# Altium footprint library new-version.PcbLib: 241 footprints (part 12 of 16)
Each footprint in its own frame and in the unit in brackets; x right, y up, seen from the top. Pads: shape width x height; smd on the part's side, far side on the other; paste and mask are expansions set on the pad; w line width, h text height; cw(c..) or ccw(c..) is an arc to the next point about the centre after c.
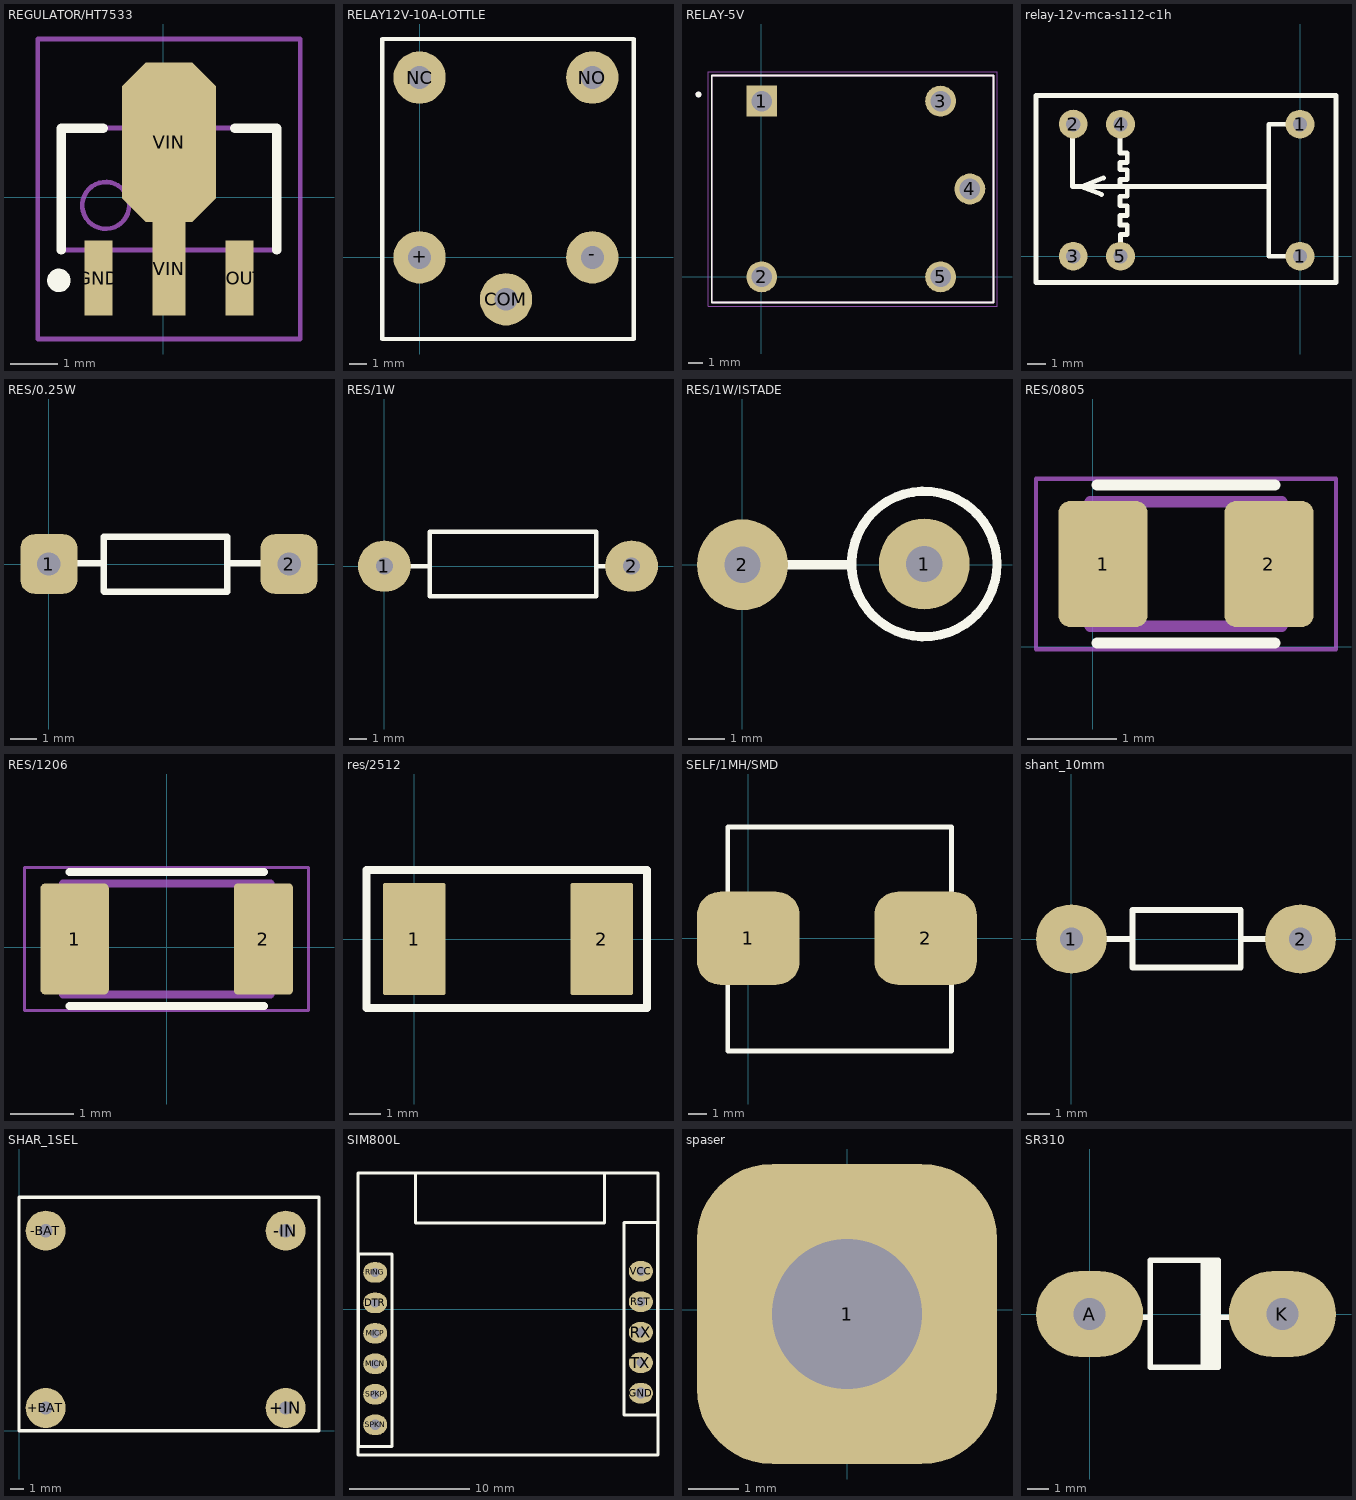
[diagram p11: the footprints below, top view; thin cyan lines are the x and y axes]

## REGULATOR/HT7533 [mm]
pads (4):
  rect 0.6x1.6 smd: GND(-1.372,-1.729) VOUT(1.628,-1.729)
  rect 0.7x2 smd: VIN(0.128,-1.529)
  oct 2x3.4 smd: VIN(0.128,1.171)
Top Overlay:
  circle w0.25: c-2.222,-1.779 r0.125
  lines w0.2: -2.172,-1.129 -2.172,1.471 -1.272,1.471 ; 1.528,1.471 2.428,1.471 2.428,-1.129
Mechanical 13:
  circle w0.1: c-1.222,-0.179 r0.5
  lines w0.1: -2.172,-1.129 -2.172,1.471 2.428,1.471 2.428,-1.129 -2.172,-1.129
Mechanical 15:
  lines w0.1: -0.372,0.171 0.628,0.171 ; 0.128,-0.329 0.128,0.671 ; -2.672,-3.029 -2.672,3.371 2.928,3.371 2.928,-3.029 -2.672,-3.029
3D body: height 1.6, standoff 0, extent -2.172,-1.129 2.428,1.471

## RELAY12V-10A-LOTTLE [mm]
pads (5):
  round 3 hole 1.3: +(0,0) -(9.9,0) COM(4.95,-2.4) NC(0,10.3) NO(9.9,10.3)
Top Overlay:
  lines w0.254: -2.139,-4.672 -2.139,12.508 12.27,12.508 12.27,-4.672 -2.139,-4.672

## RELAY-5V [mm]
pads (5):
  rect 2.1x2.1 hole 1.4: 1(0.023,11.969)
  round 2.1 hole 1.4: 2(0.023,-0.031) 3(12.223,11.969) 4(14.223,5.969) 5(12.223,-0.031)
Top Overlay:
  circle w0.2: c-4.286,12.415 r0.1
  lines w0.127: -3.377,-1.781 15.823,-1.781 15.823,13.719 -3.377,13.719 -3.377,-1.781
Mechanical 13:
  circle w0.2: c-4.286,12.415 r0.1
  lines w0.127: -3.377,-1.781 15.823,-1.781 15.823,13.719 -3.377,13.719 -3.377,-1.781
Mechanical 15:
  lines w0.05: -3.627,-2.031 16.073,-2.031 16.073,13.969 -3.627,13.969 -3.627,-2.031
3D body "ORWH-SH-105D1F,000--3DModel-STEP-56544.STEP": height 15.34, standoff -3.87, extent -3.758,-2.162 15.442,13.338

## relay-12v-mca-s112-c1h [mil]
pads (6):
  round 60 hole 30: 1(0,0) 1(0,275) 2(-472.44,275.2) 3(-472.44,0) 4(-374.02,275) 5(-374.02,0)
Top Overlay:
  lines w10: -475,275.2 -472.44,275.2 -470,275.2 ; -473.72,275.2 -473.72,145 -455,145 ; -413.57,128.61 -455,145 ; -409.19,162.93 -455,145 ; -374.02,0 -374.02,45 -364.02,45 ; -374.02,275 -375,275 -375,215 -360,215 -360,195 -375,195 -375,180 -360,180 -360,160 -375,160 -375,145 -360,145 -360,125 -375,125 -375,105 -360,105 -360,85 -375,85 -375,65 -360,65 -360,45 -364.02,45 ; -369.02,45 -364.02,45 ; -65,145 -455,145 ; 0,275 -65,275 -65,0 0,0 5,0 ; -550,-55 75,-55 75,335 -550,335 -550,-55

## RES/0.25W [mm]
pads (2):
  rrect50% 2.2x2.3 hole 0.9: 1(0,0) 2(9.258,0)
Top Overlay:
  lines w0.254: 0.85,0.028 2.12,0.028 2.12,0.79 ; 6.87,0.028 9.258,0.028 ; 2.12,-1.057 2.12,1.05 6.87,1.05 6.87,-1.075 2.138,-1.075 2.12,-1.057
3D body "res-0.25w.stp": height 2.1, standoff -4.15, extent 0.81,-1.08 8.41,1.12

## RES/1W [mm]
pads (2):
  oval 3.1x3 hole 1: 1(0,0) 2(14.527,0)
Top Overlay:
  lines w0.254: 0.113,0 2.667,0 ; 12.446,-1.746 12.446,0 ; 12.446,1.944 12.446,-1.76 2.667,-1.76 2.667,0 ; 15,0 12.446,0 ; 2.667,0 2.667,2.015 12.446,2.015 12.446,0
3D body "res-1w.stp": height 5, standoff -2.5, extent -0.555,-1.873 15.445,2.127

## RES/1W/ISTADE [mm]
pads (2):
  round 2.5 hole 1: 1(5,0.021) 2(0,0)
Top Overlay:
  circle w0.254: c5,0.021 r2
  lines w0.254: 0,0 2.972,0

## RES/0805 [mm]
pads (2):
  rrect25% 1x1.42 smd: 1(0.113,0.933) 2(1.983,0.933)
Top Overlay:
  lines w0.127: 0.048,0.043 2.048,0.043 ; 0.048,1.823 2.048,1.823
Mechanical 13:
  lines w0.127: -0.032,0.233 -0.032,1.633 2.128,1.633 2.128,0.233 -0.032,0.233
Mechanical 15:
  lines w0.05: -0.642,-0.027 -0.642,1.893 2.738,1.893 2.738,-0.027 -0.642,-0.027
3D body "RES-0805.STEP": height 0.6, standoff 0, extent -0.005,0.278 1.995,1.528

## RES/1206 [mm]
pads (2):
  rrect14% 1.09x1.77 smd: 1(-1.469,0.131)
  rrect14% 0.94x1.77 smd: 2(1.536,0.131)
Top Overlay:
  lines w0.127: -1.554,-0.934 1.546,-0.934 ; -1.554,1.196 1.546,1.196
Mechanical 13:
  lines w0.127: -1.654,-0.749 1.646,-0.749 1.646,1.011 -1.654,1.011 -1.654,-0.749
Mechanical 15:
  lines w0.05: -2.264,-1.009 2.256,-1.009 2.256,1.271 -2.264,1.271 -2.264,-1.009
3D body "RES-1206.stp": height 0.55, standoff -0.01, extent -1.51,-0.645 1.59,0.905

## res/2512 [mm]
pads (2):
  rrect7% 2x3.6 smd: 1(0,0) 2(6,0)
Top Overlay:
  lines w0.254: -1.524,-2.21 -1.524,2.21 7.442,2.21 7.442,-2.21 -1.524,-2.21
Mechanical 13:
  lines w0.127: -0.59,-1.68 -0.59,1.68

## SELF/1MH/SMD [mm]
pads (2):
  rrect50% 5.5x5 smd: 1(0,0) 2(9.5,0)
Top Overlay:
  region: 13.329,3.725
  lines w0.254: -1.107,-6.039 10.893,-6.039 10.893,5.961 -1.107,5.961 -1.107,-6.039

## shant_10mm [mm]
pads (2):
  oval 3.1x3 hole 1: 1(0,0) 2(10,0)
Top Overlay:
  lines w0.254: 0.113,0 2.667,0 ; 7.391,-0.054 7.446,0 10,0 ; 2.667,0 2.667,-1.245 7.391,-1.245 7.391,1.27 2.667,1.27 2.667,0

## SHAR_1SEL [mm]
pads (4):
  round 3 hole 1: +BAT(2,1.7) +IN(20,1.7) -BAT(2,15) -IN(20,15)
Top Overlay:
  lines w0.254: 0,0 22.5,0 22.5,17.5 0,17.5 0,0

## SIM800L [mm]
pads (11):
  oval 2x1.7 hole 0.762: DTR(9.662,0.523) MICN(9.662,-4.558) MICP(9.662,-2.018) RING(9.662,3.063) RST(31.803,0.621) RX(31.803,-1.919) SPKP(9.662,-7.098) TX(31.803,-4.459) VCC(31.803,3.162)
  oval 2x1.7 hole 0.9: GND(31.803,-6.999) SPKN(9.662,-9.638)
Top Overlay:
  lines w0.254: 8.231,11.349 8.231,-12.151 33.231,-12.151 ; 8.233,11.347 33.233,11.347 33.233,-12.153 ; 14.795,11.348 13.007,11.348 13.007,7.165 28.778,7.165 28.778,11.302 ; 8.265,-11.447 8.265,4.596 11.059,4.596 11.059,-11.447 8.265,-11.447 ; 30.406,-8.808 30.406,7.235 33.2,7.235 33.2,-8.808 30.406,-8.808

## spaser [mm]
pads (1):
  rrect50% 6x6 hole 3: 1(-0.003,-0.083)

## SR310 [mm]
pads (2):
  oval 5x4 hole 1.5: A(0,0) K(9,0)
Top Overlay:
  rectangle: 5.181,-2.508 5.923,2.458
  lines w0.254: 2.03,-0.141 2.801,-0.141 ; 5.672,-0.141 6.521,-0.141 ; 2.826,-2.486 2.826,2.514 6.008,2.514 6.008,1.018 6.008,-2.486 2.826,-2.486